# Altium footprint library P10_ESP32.PcbLib: 20 footprints (part 2 of 2)
Each footprint in its own frame and in the unit in brackets; x right, y up, seen from the top. Pads: shape width x height; smd on the part's side, far side on the other; paste and mask are expansions set on the pad; w line width, h text height; cw(c..) or ccw(c..) is an arc to the next point about the centre after c.
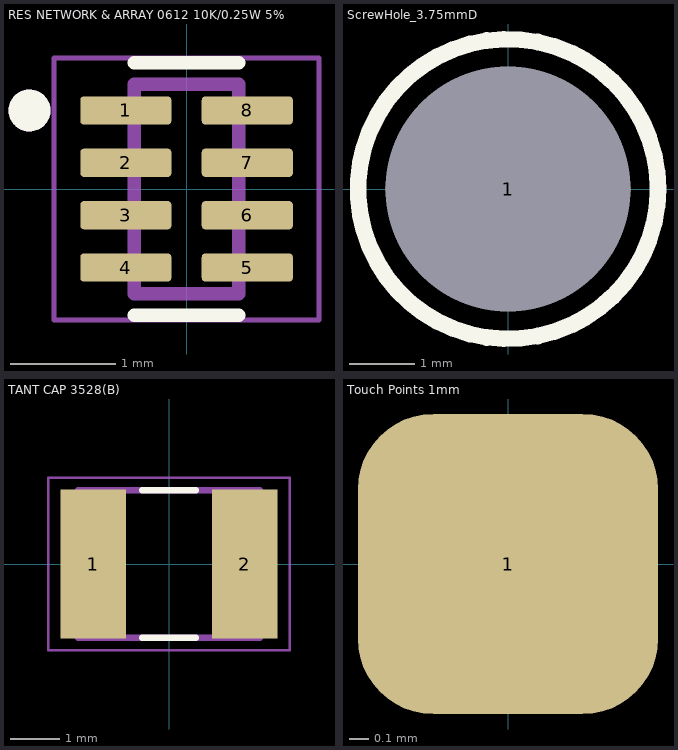
[diagram p1: the footprints below, top view; thin cyan lines are the x and y axes]

## RES NETWORK & ARRAY 0612 10K/0.25W 5% [mm] "10k Ohm Â±5% 62.5mW Power Per Element Isolated Resistor Network/Array Â±250ppm/Â°C 0804, Concave, Long Side Terminals 0612 CAT10-101J4LF"
pads (8):
  rrect25% 0.87x0.27 smd: 1(-0.58,0.75) 2(-0.58,0.25) 3(-0.58,-0.25) 4(-0.58,-0.75) 5(0.58,-0.75) 6(0.58,-0.25) 7(0.58,0.25) 8(0.58,0.75)
Top Overlay:
  circle w0.2: c-1.5,0.75 r0.1
  lines w0.127: -0.5,-1.205 0.5,-1.205 ; -0.5,1.205 0.5,1.205
Mechanical 13:
  circle w0.2: c-1.5,0.75 r0.1
  lines w0.127: -0.5,-1 -0.5,1 0.5,1 0.5,-1 -0.5,-1
Mechanical 15:
  lines w0.05: -1.265,-1.25 -1.265,1.25 1.265,1.25 1.265,-1.25 -1.265,-1.25

## ScrewHole_3.75mmD [mm] "SCREW HEAD DIA 4.5MM, SREW LEG DIA 3 MM"
pads (1):
  round 3.75 hole 3.75 unplated: 1(0,0)
Top Overlay:
  circle w0.254: c0,0 r2.3

## TANT CAP 3528(B) [mm] "10 ÂµF Molded Tantalum Polymer Capacitor 25 V 1411 (3528 Metric), 1210 150mOhm TCJB106M025R0150"
pads (2):
  rect 1.34x3.02 smd: 1(-1.54,0) 2(1.54,0)
Top Overlay:
  lines w0.127: -0.55,-1.5 0.55,-1.5 ; -0.55,1.5 0.55,1.5
Mechanical 13:
  lines w0.127: -1.85,-1.5 1.85,-1.5 1.85,1.5 -1.85,1.5 -1.85,-1.5
Mechanical 15:
  lines w0.05: -2.458,-1.75 2.458,-1.75 2.458,1.75 -2.458,1.75 -2.458,-1.75
3D body "step_temp.STEP": height 2.1, standoff 0, extent -1.75,-1.4 1.75,1.4

## Touch Points 1mm [mil] "Touch Points 0.75mm to1mm"
pads (1):
  rrect50% 60x60 smd: 1(0,0)